# EAGLE library part 43045-0812 (library kiks-connector)
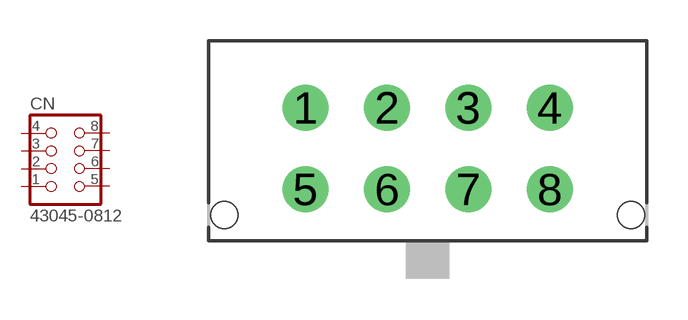
[diagram p1: symbol with the pads of 43045-0812; footprint 43045-0812]

Designator prefix CN

## 43045-0812  [43045-0812]
1  1  pas
2  2  pas
3  3  pas
4  4  pas
5  5  pas
6  6  pas
7  7  pas
8  8  pas

## Footprint 43045-0812 (pad centres in mm)
drill 1.1 pad 1.7: 1 -4.5,1.5; 2 -1.5,1.5; 3 1.5,1.5; 4 4.5,1.5; 5 -4.5,-1.5; 6 -1.5,-1.5; 7 1.5,-1.5; 8 4.5,-1.5
hole 1 at -7.5,-2.44
hole 1 at 7.5,-2.44